# Altium schematic symbol library 1043.SchLib: 1 symbol
Pins are listed as number, name and electrical type; pins without a type are passive.

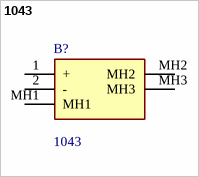
[diagram p0: symbol 1043]

## 1043
designator B?
KEYSTONE - 1043 - BATTERY HOLDER, 18650, TH; Manufacturer_Name: Keystone Electronics; Geometry.Height: 14.86mm; Manufacturer_Part_Number: 1043; Mouser Part Number: 534-1043; Mouser Price/Stock: https://www.mouser.co.uk/ProductDetail/Keystone-Electronics/1043?qs=%2F7TOpeL5Mz6j%2FnxeOA1rsg%3D%3D; Arrow Part Number: 1043; Arrow Price/Stock: https://www.arrow.com/en/products/1043/keystone-electronics?region=europe; Datasheet Link: http://www.keyelco.com/product-pdf.cfm?p=919
footprint 1043
pins: 1 +, 2 -, MH1, MH2, MH3